# EAGLE library part A4982 (library ics)
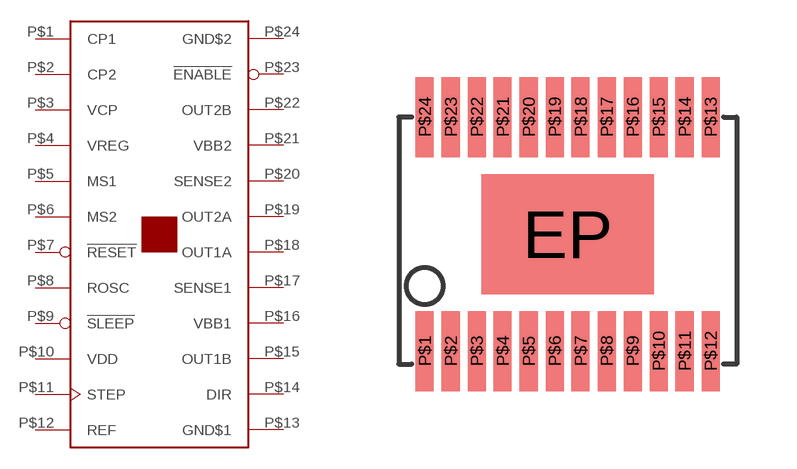
[diagram p0: symbol with the pads of TSSOP24; footprint TSSOP24]

Designator prefix -

## A4982  [TSSOP24]
EP  GND$0
P$1  CP1  pwr
P$2  CP2  pwr
P$3  VCP  pwr
P$4  VREG  pwr
P$5  MS1  in
P$6  MS2  in
P$7  !RESET  in
P$8  ROSC  in
P$9  !SLEEP  in
P$10  VDD  pwr
P$11  STEP  in
P$12  REF  in
P$13  GND$1  pwr
P$14  DIR  in
P$15  OUT1B  pwr
P$16  VBB1  pwr
P$17  SENSE1  in
P$18  OUT1A  pwr
P$19  OUT2A  pwr
P$20  SENSE2  in
P$21  VBB2  pwr
P$22  OUT2B  pwr
P$23  !ENABLE  in
P$24  GND$2  pwr

## Footprint TSSOP24 (pad centres in mm)
smd 4.32 x 3: EP 0,0
smd 0.45 x 2: P$1 -3.575,-2.925; P$2 -2.925,-2.925; P$3 -2.275,-2.925; P$4 -1.625,-2.925; P$5 -0.975,-2.925; P$6 -0.325,-2.925; P$7 0.325,-2.925; P$8 0.975,-2.925; P$9 1.625,-2.925; P$10 2.275,-2.925; P$11 2.925,-2.925; P$12 3.575,-2.925; P$13 3.575,2.925; P$14 2.925,2.925; P$15 2.275,2.925; P$16 1.625,2.925; P$17 0.975,2.925; P$18 0.325,2.925; P$19 -0.325,2.925; P$20 -0.975,2.925; P$21 -1.625,2.925; P$22 -2.275,2.925; P$23 -2.925,2.925; P$24 -3.575,2.925